# EAGLE library part NOKIA_5110 (library mapesynth_2pag)
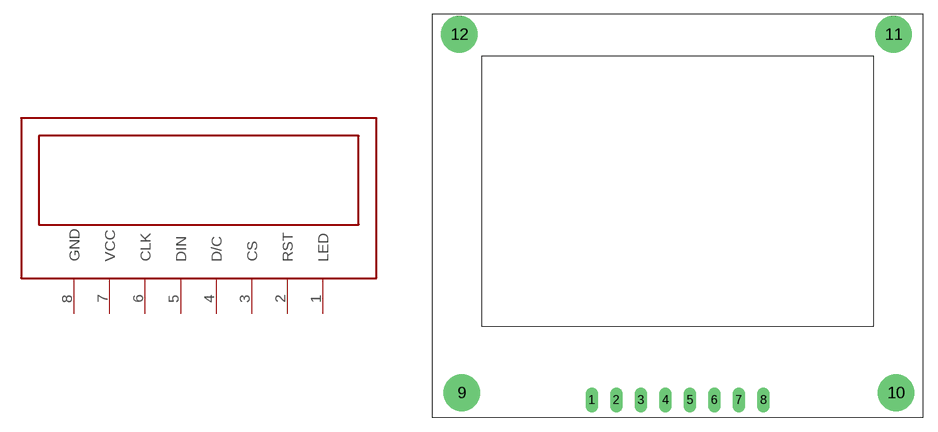
[diagram p3: symbol with the pads of NOKIA_5110; footprint NOKIA_5110]

Designator prefix -

## NOKIA_5110  [NOKIA_5110]
1  LED
2  RST
3  CS
4  D/C
5  DIN
6  CLK
7  VCC
8  GND

## Footprint NOKIA_5110 (pad centres in mm)
drill 0.8 long: 1 -22.86,3.81; 2 -20.32,3.81; 3 -17.78,3.81; 4 -15.24,3.81; 5 -12.7,3.81; 6 -10.16,3.81; 7 -7.62,3.81; 8 -5.08,3.81
drill 2.8: 9 -36.322,4.572; 10 8.636,4.572; 11 8.382,41.656; 12 -36.576,41.656